# EAGLE library part MP2315GJ-Z (library MP2315GJ-Z)
Switching Voltage Regulators 3A 24V 500kHz Sync buck Source: Datasheet <https://componentsearchengine.com/Datasheets/1/MP2315GJ-Z.pdf>
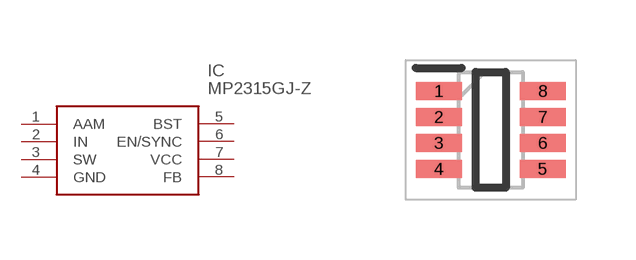
[diagram p0: symbol with the pads of SOT65P280X100-8N; footprint SOT65P280X100-8N]

Designator prefix IC

## MP2315GJ-Z (Description: Switching Voltage Regulators 3A 24V 500kHz Sync buck; Height: 1mm; Manufacturer_Name: Monolithic Power Systems (MPS); Manufacturer_Part_Number: MP2315GJ-Z; Mouser_Part_Number: 946-MP2315GJZ; Mouser_Price-Stock: https://www.mouser.co.uk/ProductDetail/Monolithic-Power-Systems-MPS/MP2315GJ-Z?qs=QEkzKklKf2QEN5VKd%252Br2GQ%3D%3D)  [SOT65P280X100-8N]
1  AAM
2  IN  in
3  SW
4  GND  pwr
5  BST
6  EN/SYNC
7  VCC
8  FB

## Footprint SOT65P280X100-8N (pad centres in mm)
TSOT23-8
smd 1.15 x 0.45: 1 -1.3,0.975; 2 -1.3,0.325; 3 -1.3,-0.325; 4 -1.3,-0.975; 5 1.3,-0.975; 6 1.3,-0.325; 7 1.3,0.325; 8 1.3,0.975